# EAGLE library part HT82K628A-40DIPLF (library holtekICKeyboardEncodersPS2)
Windows 2000 PS/2 Keyboard Encoder
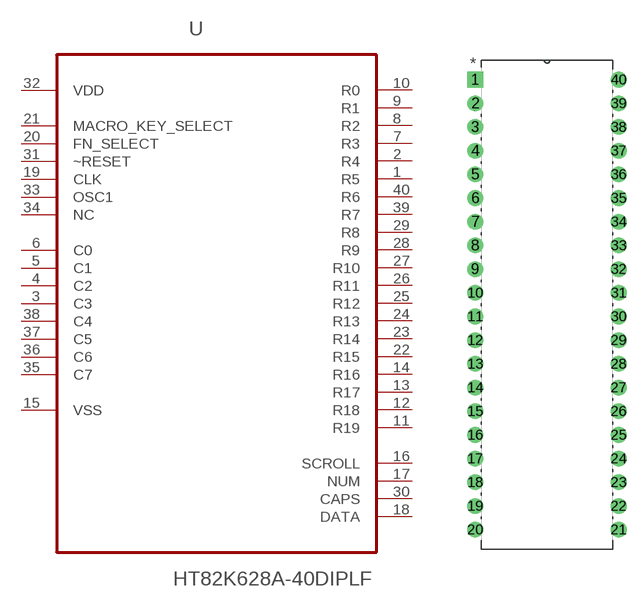
[diagram p0: symbol with the pads of DIP254P1524X393-40; footprint DIP254P1524X393-40]

Designator prefix U

## HT82K628A-40DIPLF (MPN: HT82K628A-40DIPLF; OC_FARNELL: 1420878; OC_NEWARK: 53M7845; PACKAGE: DIP-40; SUPPLIER: HOLTEK)  [DIP254P1524X393-40]
1  R5  out
2  R4  out
3  C3  in
4  C2  in
5  C1  in
6  C0  in
7  R3  out
8  R2  out
9  R1  out
10  R0  out
11  R19  out
12  R18  out
13  R17  out
14  R16  out
15  VSS  pwr
16  SCROLL  out
17  NUM  out
18  DATA
19  CLK  in
20  FN_SELECT  in
21  MACRO_KEY_SELECT  in
22  R15  out
23  R14  out
24  R13  out
25  R12  out
26  R11  out
27  R10  out
28  R9  out
29  R8  out
30  CAPS  out
31  ~RESET  in
32  VDD  pwr
33  OSC1  in
34  NC  nc
35  C7  in
36  C6  in
37  C5  in
38  C4  in
39  R7  out
40  R6  out

## Footprint DIP254P1524X393-40 (pad centres in mm)
drill 1.118 square: 1 -15.367,48.26
drill 1.118: 2 -15.367,45.72; 3 -15.367,43.18; 4 -15.367,40.64; 5 -15.367,38.1; 6 -15.367,35.56; 7 -15.367,33.02; 8 -15.367,30.48; 9 -15.367,27.94; 10 -15.367,25.4; 11 -15.367,22.86; 12 -15.367,20.32; 13 -15.367,17.78; 14 -15.367,15.24; 15 -15.367,12.7; 16 -15.367,10.16; 17 -15.367,7.62; 18 -15.367,5.08; 19 -15.367,2.54; 20 -15.367,0; 21 0,0; 22 0,2.54; 23 0,5.08; 24 0,7.62; 25 0,10.16; 26 0,12.7; 27 0,15.24; 28 0,17.78; 29 0,20.32; 30 0,22.86; 31 0,25.4; 32 0,27.94; 33 0,30.48; 34 0,33.02; 35 0,35.56; 36 0,38.1; 37 0,40.64; 38 0,43.18; 39 0,45.72; 40 0,48.26